# Altium footprint library WDFN5x5-12.PcbLib: 1 footprints
Each footprint in its own frame and in the unit in brackets; x right, y up, seen from the top. Pads: shape width x height; smd on the part's side, far side on the other; paste and mask are expansions set on the pad; w line width, h text height; cw(c..) or ccw(c..) is an arc to the next point about the centre after c.
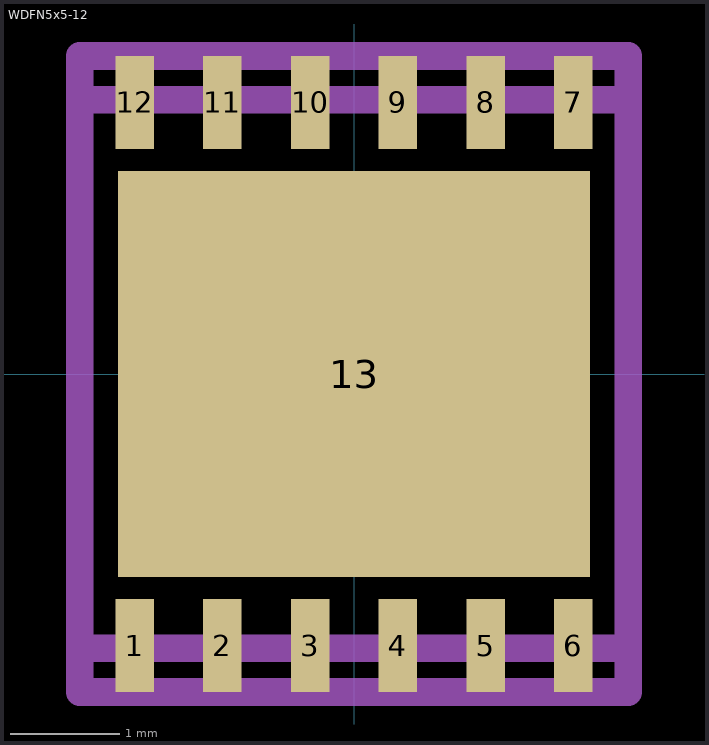
[diagram p0: the footprint, top view; thin cyan lines are the x and y axes]

## WDFN5x5-12 [mm]
pads (13):
  rect 0.35x0.85 smd: 1(-2,-2.475) 2(-1.2,-2.475) 3(-0.4,-2.475) 4(0.4,-2.475) 5(1.2,-2.475) 6(2,-2.475) 7(2,2.475) 8(1.2,2.475) 9(0.4,2.475) 10(-0.4,2.475) 11(-1.2,2.475) 12(-2,2.475)
  rect 4.3x3.7 smd: 13(0,0)
Mechanical 13:
  lines w0.254: -2.5,-2.5 2.5,-2.5 2.5,2.5 -2.5,2.5 -2.5,-2.5
Top Component Outline:
  lines w0.254: -2.5,-2.9 2.5,-2.9 2.5,2.9 -2.5,2.9 -2.5,-2.9
3D body: height 0.75, standoff 0.03, extent -2.5,-2.5 2.5,2.5